# Altium footprint library AMP Footprints.PcbLib: 903 footprints (part 40 of 58)
Each footprint in its own frame and in the unit in brackets; x right, y up, seen from the top. Pads: shape width x height; smd on the part's side, far side on the other; paste and mask are expansions set on the pad; w line width, h text height; cw(c..) or ccw(c..) is an arc to the next point about the centre after c.
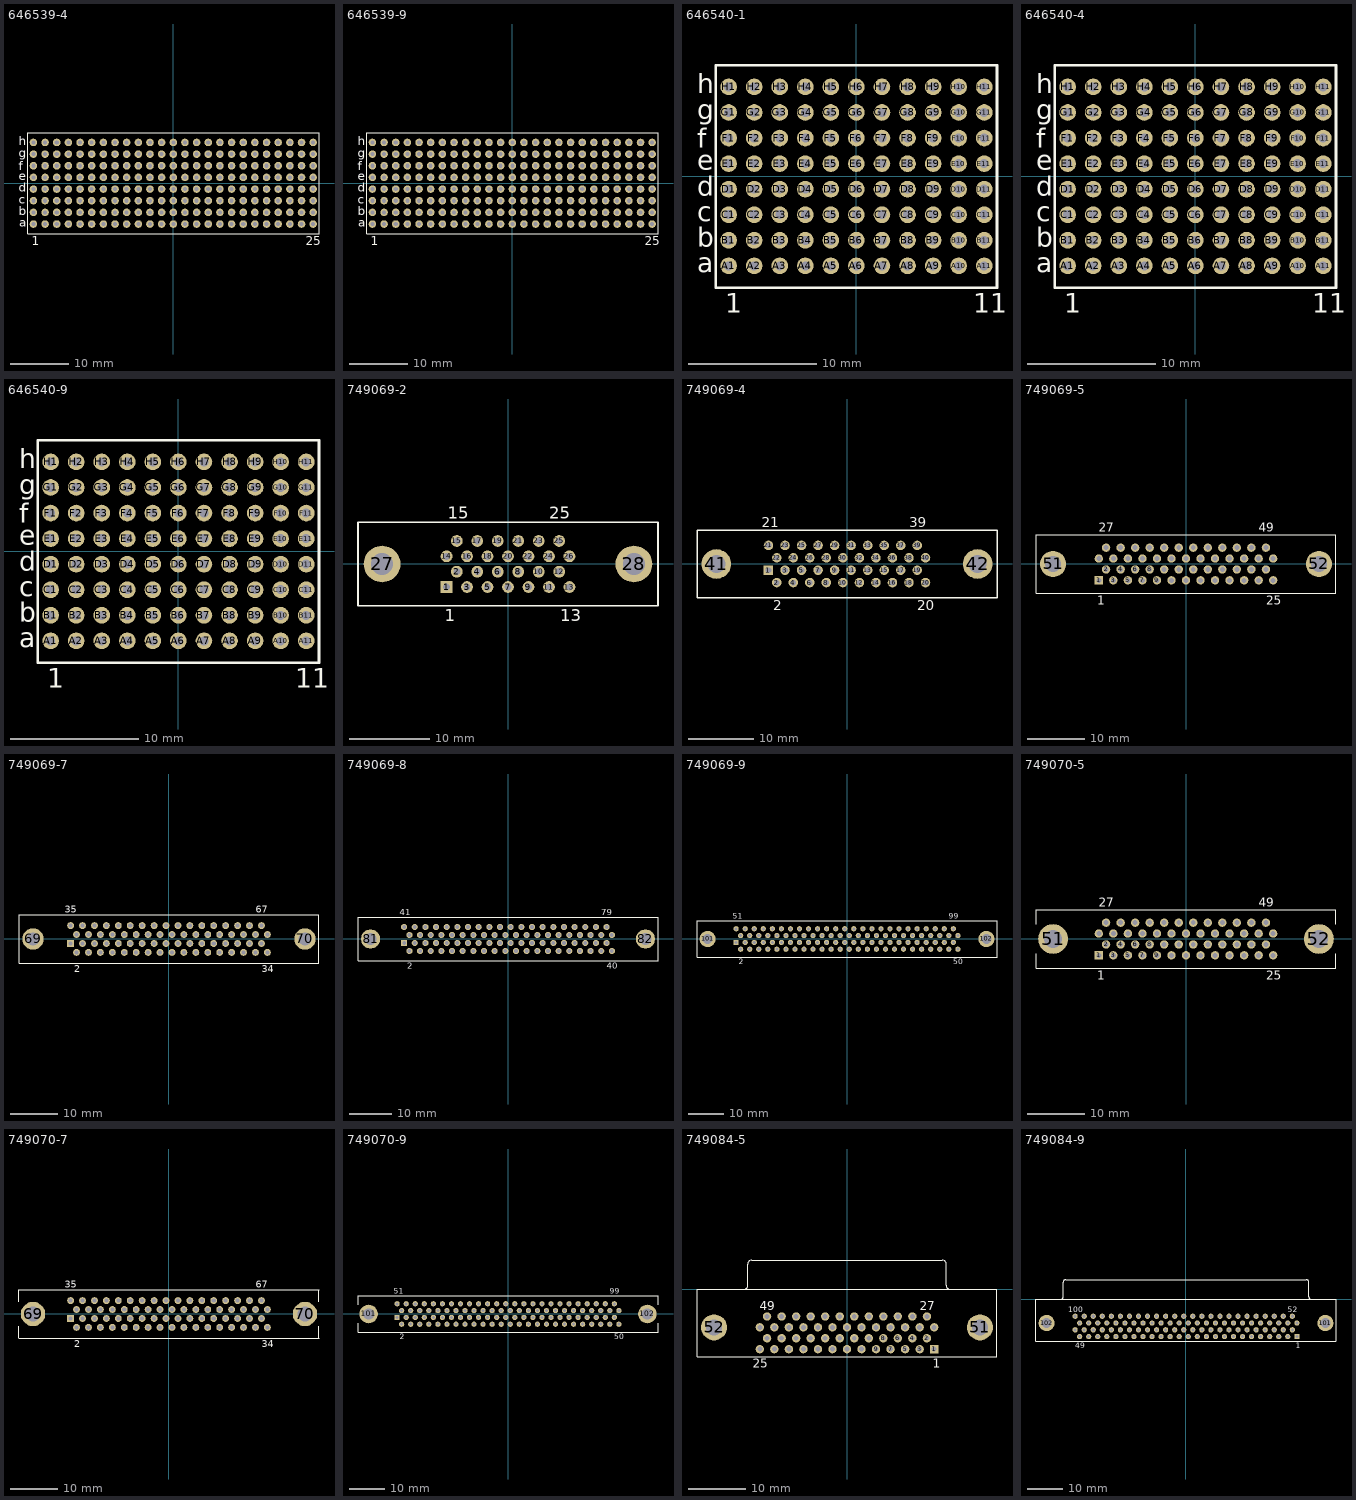
[diagram p39: the footprints below, top view; thin cyan lines are the x and y axes]

## 646539-4 [mm] "Connector; CompactPCI; 200 Position; Vertical"
height 12
pads (200):
  round 1.3 hole 0.7: A1(-24,-7) A2(-22,-7) A3(-20,-7) A4(-18,-7) A5(-16,-7) A6(-14,-7) A7(-12,-7) A8(-10,-7) A9(-8,-7) A10(-6,-7) A11(-4,-7) A12(-2,-7) A13(0,-7) A14(2,-7) A15(4,-7) A16(6,-7) A17(8,-7) A18(10,-7) A19(12,-7) A20(14,-7) A21(16,-7) A22(18,-7) A23(20,-7) A24(22,-7) A25(24,-7) B1(-24,-5) B2(-22,-5) B3(-20,-5) B4(-18,-5) B5(-16,-5) B6(-14,-5) B7(-12,-5) B8(-10,-5) B9(-8,-5) B10(-6,-5) B11(-4,-5) B12(-2,-5) B13(0,-5) B14(2,-5) B15(4,-5) B16(6,-5) B17(8,-5) B18(10,-5) B19(12,-5) B20(14,-5) B21(16,-5) B22(18,-5) B23(20,-5) B24(22,-5) B25(24,-5) C1(-24,-3) C2(-22,-3) C3(-20,-3) C4(-18,-3) C5(-16,-3) C6(-14,-3) C7(-12,-3) C8(-10,-3) C9(-8,-3) C10(-6,-3) C11(-4,-3) C12(-2,-3) C13(0,-3) C14(2,-3) C15(4,-3) C16(6,-3) C17(8,-3) C18(10,-3) C19(12,-3) C20(14,-3) C21(16,-3) C22(18,-3) C23(20,-3) C24(22,-3) C25(24,-3) D1(-24,-1) D2(-22,-1) D3(-20,-1) D4(-18,-1) D5(-16,-1) D6(-14,-1) D7(-12,-1) D8(-10,-1) D9(-8,-1) D10(-6,-1) D11(-4,-1) D12(-2,-1) D13(0,-1) D14(2,-1) D15(4,-1) D16(6,-1) D17(8,-1) D18(10,-1) D19(12,-1) D20(14,-1) D21(16,-1) D22(18,-1) D23(20,-1) D24(22,-1) D25(24,-1) E1(-24,1) E2(-22,1) E3(-20,1) E4(-18,1) E5(-16,1) E6(-14,1) E7(-12,1) E8(-10,1) E9(-8,1) E10(-6,1) E11(-4,1) E12(-2,1) E13(0,1) E14(2,1) E15(4,1) E16(6,1) E17(8,1) E18(10,1) E19(12,1) E20(14,1) E21(16,1) E22(18,1) E23(20,1) E24(22,1) E25(24,1) F1(-24,3) F2(-22,3) F3(-20,3) F4(-18,3) F5(-16,3) F6(-14,3) F7(-12,3) F8(-10,3) F9(-8,3) F10(-6,3) F11(-4,3) F12(-2,3) F13(0,3) F14(2,3) F15(4,3) F16(6,3) F17(8,3) F18(10,3) F19(12,3) F20(14,3) F21(16,3) F22(18,3) F23(20,3) F24(22,3) F25(24,3) G1(-24,5) G2(-22,5) G3(-20,5) G4(-18,5) G5(-16,5) G6(-14,5) G7(-12,5) G8(-10,5) G9(-8,5) G10(-6,5) G11(-4,5) G12(-2,5) G13(0,5) G14(2,5) G15(4,5) G16(6,5) G17(8,5) G18(10,5) G19(12,5) G20(14,5) G21(16,5) G22(18,5) G23(20,5) G24(22,5) G25(24,5) H1(-24,7) H2(-22,7) H3(-20,7) H4(-18,7) H5(-16,7) H6(-14,7) H7(-12,7) H8(-10,7) H9(-8,7) H10(-6,7) H11(-4,7) H12(-2,7) H13(0,7) H14(2,7) H15(4,7) H16(6,7) H17(8,7) H18(10,7) H19(12,7) H20(14,7) H21(16,7) H22(18,7) H23(20,7) H24(22,7) H25(24,7)
Top Overlay:
  lines w0.2: -25,-8.7 -25,8.7 25,8.7 25,-8.7 -25,-8.7
  text "a" at -26.475,-7.5 h1.5
  text "h" at -26.475,6.5 h1.5
  text "1" at -24.25,-10.675 h1.5
  text "25" at 22.75,-10.675 h1.5
  text "b" at -26.475,-5.5 h1.5
  text "c" at -26.475,-3.5 h1.5
  text "d" at -26.475,-1.5 h1.5
  text "e" at -26.475,0.5 h1.5
  text "f" at -26.475,2.225 h1.5
  text "g" at -26.475,4.488 h1.5

## 646539-9 [mm] "Connector; CompactPCI; 200 Position; Vertical"
height 12
pads (200):
  round 1.3 hole 0.7: A1(-24,-7) A2(-22,-7) A3(-20,-7) A4(-18,-7) A5(-16,-7) A6(-14,-7) A7(-12,-7) A8(-10,-7) A9(-8,-7) A10(-6,-7) A11(-4,-7) A12(-2,-7) A13(0,-7) A14(2,-7) A15(4,-7) A16(6,-7) A17(8,-7) A18(10,-7) A19(12,-7) A20(14,-7) A21(16,-7) A22(18,-7) A23(20,-7) A24(22,-7) A25(24,-7) B1(-24,-5) B2(-22,-5) B3(-20,-5) B4(-18,-5) B5(-16,-5) B6(-14,-5) B7(-12,-5) B8(-10,-5) B9(-8,-5) B10(-6,-5) B11(-4,-5) B12(-2,-5) B13(0,-5) B14(2,-5) B15(4,-5) B16(6,-5) B17(8,-5) B18(10,-5) B19(12,-5) B20(14,-5) B21(16,-5) B22(18,-5) B23(20,-5) B24(22,-5) B25(24,-5) C1(-24,-3) C2(-22,-3) C3(-20,-3) C4(-18,-3) C5(-16,-3) C6(-14,-3) C7(-12,-3) C8(-10,-3) C9(-8,-3) C10(-6,-3) C11(-4,-3) C12(-2,-3) C13(0,-3) C14(2,-3) C15(4,-3) C16(6,-3) C17(8,-3) C18(10,-3) C19(12,-3) C20(14,-3) C21(16,-3) C22(18,-3) C23(20,-3) C24(22,-3) C25(24,-3) D1(-24,-1) D2(-22,-1) D3(-20,-1) D4(-18,-1) D5(-16,-1) D6(-14,-1) D7(-12,-1) D8(-10,-1) D9(-8,-1) D10(-6,-1) D11(-4,-1) D12(-2,-1) D13(0,-1) D14(2,-1) D15(4,-1) D16(6,-1) D17(8,-1) D18(10,-1) D19(12,-1) D20(14,-1) D21(16,-1) D22(18,-1) D23(20,-1) D24(22,-1) D25(24,-1) E1(-24,1) E2(-22,1) E3(-20,1) E4(-18,1) E5(-16,1) E6(-14,1) E7(-12,1) E8(-10,1) E9(-8,1) E10(-6,1) E11(-4,1) E12(-2,1) E13(0,1) E14(2,1) E15(4,1) E16(6,1) E17(8,1) E18(10,1) E19(12,1) E20(14,1) E21(16,1) E22(18,1) E23(20,1) E24(22,1) E25(24,1) F1(-24,3) F2(-22,3) F3(-20,3) F4(-18,3) F5(-16,3) F6(-14,3) F7(-12,3) F8(-10,3) F9(-8,3) F10(-6,3) F11(-4,3) F12(-2,3) F13(0,3) F14(2,3) F15(4,3) F16(6,3) F17(8,3) F18(10,3) F19(12,3) F20(14,3) F21(16,3) F22(18,3) F23(20,3) F24(22,3) F25(24,3) G1(-24,5) G2(-22,5) G3(-20,5) G4(-18,5) G5(-16,5) G6(-14,5) G7(-12,5) G8(-10,5) G9(-8,5) G10(-6,5) G11(-4,5) G12(-2,5) G13(0,5) G14(2,5) G15(4,5) G16(6,5) G17(8,5) G18(10,5) G19(12,5) G20(14,5) G21(16,5) G22(18,5) G23(20,5) G24(22,5) G25(24,5) H1(-24,7) H2(-22,7) H3(-20,7) H4(-18,7) H5(-16,7) H6(-14,7) H7(-12,7) H8(-10,7) H9(-8,7) H10(-6,7) H11(-4,7) H12(-2,7) H13(0,7) H14(2,7) H15(4,7) H16(6,7) H17(8,7) H18(10,7) H19(12,7) H20(14,7) H21(16,7) H22(18,7) H23(20,7) H24(22,7) H25(24,7)
Top Overlay:
  lines w0.2: -25,-8.7 -25,8.7 25,8.7 25,-8.7 -25,-8.7
  text "a" at -26.475,-7.5 h1.5
  text "h" at -26.475,6.5 h1.5
  text "1" at -24.25,-10.675 h1.5
  text "25" at 22.75,-10.675 h1.5
  text "b" at -26.475,-5.5 h1.5
  text "c" at -26.475,-3.5 h1.5
  text "d" at -26.475,-1.5 h1.5
  text "e" at -26.475,0.5 h1.5
  text "f" at -26.475,2.225 h1.5
  text "g" at -26.475,4.488 h1.5

## 646540-1 [mm] "Connector; CompactPCI; 88 Position; Vertical"
height 13.95
pads (88):
  round 1.3 hole 0.7: A1(-10,-7) A2(-8,-7) A3(-6,-7) A4(-4,-7) A5(-2,-7) A6(0,-7) A7(2,-7) A8(4,-7) A9(6,-7) A10(8,-7) A11(10,-7) B1(-10,-5) B2(-8,-5) B3(-6,-5) B4(-4,-5) B5(-2,-5) B6(0,-5) B7(2,-5) B8(4,-5) B9(6,-5) B10(8,-5) B11(10,-5) C1(-10,-3) C2(-8,-3) C3(-6,-3) C4(-4,-3) C5(-2,-3) C6(0,-3) C7(2,-3) C8(4,-3) C9(6,-3) C10(8,-3) C11(10,-3) D1(-10,-1) D2(-8,-1) D3(-6,-1) D4(-4,-1) D5(-2,-1) D6(0,-1) D7(2,-1) D8(4,-1) D9(6,-1) D10(8,-1) D11(10,-1) E1(-10,1) E2(-8,1) E3(-6,1) E4(-4,1) E5(-2,1) E6(0,1) E7(2,1) E8(4,1) E9(6,1) E10(8,1) E11(10,1) F1(-10,3) F2(-8,3) F3(-6,3) F4(-4,3) F5(-2,3) F6(0,3) F7(2,3) F8(4,3) F9(6,3) F10(8,3) F11(10,3) G1(-10,5) G2(-8,5) G3(-6,5) G4(-4,5) G5(-2,5) G6(0,5) G7(2,5) G8(4,5) G9(6,5) G10(8,5) G11(10,5) H1(-10,7) H2(-8,7) H3(-6,7) H4(-4,7) H5(-2,7) H6(0,7) H7(2,7) H8(4,7) H9(6,7) H10(8,7) H11(10,7)
Top Overlay:
  lines w0.2: -11,-8.7 11,-8.7 11,8.7 -11,8.7 -11,-8.7
  text "a" at -12.475,-7.5 h1.5
  text "h" at -12.475,6.5 h1.5
  text "b" at -12.475,-5.5 h1.5
  text "c" at -12.475,-3.5 h1.5
  text "d" at -12.475,-1.5 h1.5
  text "e" at -12.475,0.5 h1.5
  text "f" at -12.475,2.225 h1.5
  text "g" at -12.475,4.488 h1.5
  text "11" at 9.125,-10.675 h1.5
  text "1" at -10.25,-10.675 h1.5

## 646540-4 [mm] "Connector; CompactPCI; 88 Position; Vertical"
height 13.95
pads (88):
  round 1.3 hole 0.7: A1(-10,-7) A2(-8,-7) A3(-6,-7) A4(-4,-7) A5(-2,-7) A6(0,-7) A7(2,-7) A8(4,-7) A9(6,-7) A10(8,-7) A11(10,-7) B1(-10,-5) B2(-8,-5) B3(-6,-5) B4(-4,-5) B5(-2,-5) B6(0,-5) B7(2,-5) B8(4,-5) B9(6,-5) B10(8,-5) B11(10,-5) C1(-10,-3) C2(-8,-3) C3(-6,-3) C4(-4,-3) C5(-2,-3) C6(0,-3) C7(2,-3) C8(4,-3) C9(6,-3) C10(8,-3) C11(10,-3) D1(-10,-1) D2(-8,-1) D3(-6,-1) D4(-4,-1) D5(-2,-1) D6(0,-1) D7(2,-1) D8(4,-1) D9(6,-1) D10(8,-1) D11(10,-1) E1(-10,1) E2(-8,1) E3(-6,1) E4(-4,1) E5(-2,1) E6(0,1) E7(2,1) E8(4,1) E9(6,1) E10(8,1) E11(10,1) F1(-10,3) F2(-8,3) F3(-6,3) F4(-4,3) F5(-2,3) F6(0,3) F7(2,3) F8(4,3) F9(6,3) F10(8,3) F11(10,3) G1(-10,5) G2(-8,5) G3(-6,5) G4(-4,5) G5(-2,5) G6(0,5) G7(2,5) G8(4,5) G9(6,5) G10(8,5) G11(10,5) H1(-10,7) H2(-8,7) H3(-6,7) H4(-4,7) H5(-2,7) H6(0,7) H7(2,7) H8(4,7) H9(6,7) H10(8,7) H11(10,7)
Top Overlay:
  lines w0.2: -11,-8.7 11,-8.7 11,8.7 -11,8.7 -11,-8.7
  text "a" at -12.475,-7.5 h1.5
  text "h" at -12.475,6.5 h1.5
  text "b" at -12.475,-5.5 h1.5
  text "c" at -12.475,-3.5 h1.5
  text "d" at -12.475,-1.5 h1.5
  text "e" at -12.475,0.5 h1.5
  text "f" at -12.475,2.225 h1.5
  text "g" at -12.475,4.488 h1.5
  text "11" at 9.125,-10.675 h1.5
  text "1" at -10.25,-10.675 h1.5

## 646540-9 [mm] "Connector; CompactPCI; 88 Position; Vertical"
height 13.95
pads (88):
  round 1.3 hole 0.7: A1(-10,-7) A2(-8,-7) A3(-6,-7) A4(-4,-7) A5(-2,-7) A6(0,-7) A7(2,-7) A8(4,-7) A9(6,-7) A10(8,-7) A11(10,-7) B1(-10,-5) B2(-8,-5) B3(-6,-5) B4(-4,-5) B5(-2,-5) B6(0,-5) B7(2,-5) B8(4,-5) B9(6,-5) B10(8,-5) B11(10,-5) C1(-10,-3) C2(-8,-3) C3(-6,-3) C4(-4,-3) C5(-2,-3) C6(0,-3) C7(2,-3) C8(4,-3) C9(6,-3) C10(8,-3) C11(10,-3) D1(-10,-1) D2(-8,-1) D3(-6,-1) D4(-4,-1) D5(-2,-1) D6(0,-1) D7(2,-1) D8(4,-1) D9(6,-1) D10(8,-1) D11(10,-1) E1(-10,1) E2(-8,1) E3(-6,1) E4(-4,1) E5(-2,1) E6(0,1) E7(2,1) E8(4,1) E9(6,1) E10(8,1) E11(10,1) F1(-10,3) F2(-8,3) F3(-6,3) F4(-4,3) F5(-2,3) F6(0,3) F7(2,3) F8(4,3) F9(6,3) F10(8,3) F11(10,3) G1(-10,5) G2(-8,5) G3(-6,5) G4(-4,5) G5(-2,5) G6(0,5) G7(2,5) G8(4,5) G9(6,5) G10(8,5) G11(10,5) H1(-10,7) H2(-8,7) H3(-6,7) H4(-4,7) H5(-2,7) H6(0,7) H7(2,7) H8(4,7) H9(6,7) H10(8,7) H11(10,7)
Top Overlay:
  lines w0.2: -11,-8.7 11,-8.7 11,8.7 -11,8.7 -11,-8.7
  text "a" at -12.475,-7.5 h1.5
  text "h" at -12.475,6.5 h1.5
  text "b" at -12.475,-5.5 h1.5
  text "c" at -12.475,-3.5 h1.5
  text "d" at -12.475,-1.5 h1.5
  text "e" at -12.475,0.5 h1.5
  text "f" at -12.475,2.225 h1.5
  text "g" at -12.475,4.488 h1.5
  text "11" at 9.125,-10.675 h1.5
  text "1" at -10.25,-10.675 h1.5

## 749069-2 [mm] "Connector; D Subminiature 050 Series; 26 Position; Vertical"
height 9.04
pads (28):
  rect 1.46x1.46 hole 0.86: 1(-7.62,-2.857)
  round 1.46 hole 0.86: 2(-6.35,-0.953) 3(-5.08,-2.857) 4(-3.81,-0.953) 5(-2.54,-2.857) 6(-1.27,-0.953) 7(0,-2.857) 8(1.27,-0.953) 9(2.54,-2.857) 10(3.81,-0.953) 11(5.08,-2.857) 12(6.35,-0.953) 13(7.62,-2.857) 14(-7.62,0.953) 15(-6.35,2.857) 16(-5.08,0.953) 17(-3.81,2.857) 18(-2.54,0.953) 19(-1.27,2.857) 20(0,0.953) 21(1.27,2.857) 22(2.54,0.953) 23(3.81,2.857) 24(5.08,0.953) 25(6.35,2.857) 26(7.62,0.953)
  round 4.55 hole 2.77: 27(-15.62,0) 28(15.62,0)
Top Overlay:
  lines w0.2: -18.605,-5.155 -18.605,5.155 18.605,5.155 18.605,-5.155 -18.605,-5.155
  text "25" at 5.1,5.63 h1.5
  text "15" at -7.475,5.63 h1.5
  text "13" at 6.495,-7.13 h1.5
  text "1" at -7.87,-7.13 h1.5

## 749069-4 [mm] "Connector; D Subminiature 050 Series; 40 Position; Vertical"
height 9.04
pads (42):
  rect 1.46x1.46 hole 0.86: 1(-12.065,-0.953)
  round 1.46 hole 0.86: 2(-10.795,-2.857) 3(-9.525,-0.953) 4(-8.255,-2.857) 5(-6.985,-0.953) 6(-5.715,-2.857) 7(-4.445,-0.953) 8(-3.175,-2.857) 9(-1.905,-0.953) 10(-0.635,-2.857) 11(0.635,-0.953) 12(1.905,-2.857) 13(3.175,-0.953) 14(4.445,-2.857) 15(5.715,-0.953) 16(6.985,-2.857) 17(8.255,-0.953) 18(9.525,-2.857) 19(10.795,-0.953) 20(12.065,-2.857) 21(-12.065,2.857) 22(-10.795,0.953) 23(-9.525,2.857) 24(-8.255,0.953) 25(-6.985,2.857) 26(-5.715,0.953) 27(-4.445,2.857) 28(-3.175,0.953) 29(-1.905,2.857) 30(-0.635,0.953) 31(0.635,2.857) 32(1.905,0.953) 33(3.175,2.857) 34(4.445,0.953) 35(5.715,2.857) 36(6.985,0.953) 37(8.255,2.857) 38(9.525,0.953) 39(10.795,2.857) 40(12.065,0.953)
  round 4.55 hole 2.77: 41(-20.065,0) 42(20.065,0)
Top Overlay:
  lines w0.2: -23.05,-5.155 -23.05,5.155 23.05,5.155 23.05,-5.155 -23.05,-5.155
  text "21" at -13.065,5.63 h1.5
  text "39" at 9.545,5.63 h1.5
  text "2" at -11.295,-7.13 h1.5
  text "20" at 10.815,-7.13 h1.5

## 749069-5 [mm] "Connector; D Subminiature 050 Series; 50 Position; Vertical"
height 9.04
pads (52):
  rect 1.46x1.46 hole 0.86: 1(-15.24,-2.857)
  round 1.46 hole 0.86: 2(-13.97,-0.953) 3(-12.7,-2.857) 4(-11.43,-0.953) 5(-10.16,-2.857) 6(-8.89,-0.953) 7(-7.62,-2.857) 8(-6.35,-0.953) 9(-5.08,-2.857) 10(-3.81,-0.953) 11(-2.54,-2.857) 12(-1.27,-0.953) 13(0,-2.857) 14(1.27,-0.953) 15(2.54,-2.857) 16(3.81,-0.953) 17(5.08,-2.857) 18(6.35,-0.953) 19(7.62,-2.857) 20(8.89,-0.953) 21(10.16,-2.857) 22(11.43,-0.953) 23(12.7,-2.857) 24(13.97,-0.953) 25(15.24,-2.857) 26(-15.24,0.953) 27(-13.97,2.857) 28(-12.7,0.953) 29(-11.43,2.857) 30(-10.16,0.953) 31(-8.89,2.857) 32(-7.62,0.953) 33(-6.35,2.857) 34(-5.08,0.953) 35(-3.81,2.857) 36(-2.54,0.953) 37(-1.27,2.857) 38(0,0.953) 39(1.27,2.857) 40(2.54,0.953) 41(3.81,2.857) 42(5.08,0.953) 43(6.35,2.857) 44(7.62,0.953) 45(8.89,2.857) 46(10.16,0.953) 47(11.43,2.857) 48(12.7,0.953) 49(13.97,2.857) 50(15.24,0.953)
  round 4.55 hole 2.77: 51(-23.24,0) 52(23.24,0)
Top Overlay:
  lines w0.2: -26.225,-5.155 26.225,-5.155 26.225,5.155 -26.225,5.155 -26.225,-5.155
  text "49" at 12.72,5.63 h1.5
  text "27" at -15.22,5.63 h1.5
  text "25" at 13.99,-7.13 h1.5
  text "1" at -15.49,-7.13 h1.5

## 749069-7 [mm] "Connector; D Subminiature 050 Series; 68 Position; Vertical"
height 9.04
pads (70):
  rect 1.46x1.46 hole 0.86: 1(-20.955,-0.953)
  round 1.46 hole 0.86: 2(-19.685,-2.857) 3(-18.415,-0.953) 4(-17.145,-2.857) 5(-15.875,-0.953) 6(-14.605,-2.857) 7(-13.335,-0.953) 8(-12.065,-2.857) 9(-10.795,-0.953) 10(-9.525,-2.857) 11(-8.255,-0.953) 12(-6.985,-2.857) 13(-5.715,-0.953) 14(-4.445,-2.857) 15(-3.175,-0.953) 16(-1.905,-2.857) 17(-0.635,-0.953) 18(0.635,-2.857) 19(1.905,-0.953) 20(3.175,-2.857) 21(4.445,-0.953) 22(5.715,-2.857) 23(6.985,-0.953) 24(8.255,-2.857) 25(9.525,-0.953) 26(10.795,-2.857) 27(12.065,-0.953) 28(13.335,-2.857) 29(14.605,-0.953) 30(15.875,-2.857) 31(17.145,-0.953) 32(18.415,-2.857) 33(19.685,-0.953) 34(20.955,-2.857) 35(-20.955,2.857) 36(-19.685,0.953) 37(-18.415,2.857) 38(-17.145,0.953) 39(-15.875,2.857) 40(-14.605,0.953) 41(-13.335,2.857) 42(-12.065,0.953) 43(-10.795,2.857) 44(-9.525,0.953) 45(-8.255,2.857) 46(-6.985,0.953) 47(-5.715,2.857) 48(-4.445,0.953) 49(-3.175,2.857) 50(-1.905,0.953) 51(-0.635,2.857) 52(0.635,0.953) 53(1.905,2.857) 54(3.175,0.953) 55(4.445,2.857) 56(5.715,0.953) 57(6.985,2.857) 58(8.255,0.953) 59(9.525,2.857) 60(10.795,0.953) 61(12.065,2.857) 62(13.335,0.953) 63(14.605,2.857) 64(15.875,0.953) 65(17.145,2.857) 66(18.415,0.953) 67(19.685,2.857) 68(20.955,0.953)
  round 4.55 hole 2.77: 69(-28.955,0) 70(28.955,0)
Top Overlay:
  lines w0.2: -31.94,-5.155 31.94,-5.155 31.94,5.155 -31.94,5.155 -31.94,-5.155
  text "67" at 18.435,5.63 h1.5
  text "35" at -22.205,5.63 h1.5
  text "34" at 19.705,-7.13 h1.5
  text "2" at -20.185,-7.13 h1.5

## 749069-8 [mm] "Connector; D Subminiature 050 Series; 80 Position; Vertical"
height 9.04
pads (82):
  rect 1.46x1.46 hole 0.86: 1(-24.765,-0.953)
  round 1.46 hole 0.86: 2(-23.495,-2.857) 3(-22.225,-0.953) 4(-20.955,-2.857) 5(-19.685,-0.953) 6(-18.415,-2.857) 7(-17.145,-0.953) 8(-15.875,-2.857) 9(-14.605,-0.953) 10(-13.335,-2.857) 11(-12.065,-0.953) 12(-10.795,-2.857) 13(-9.525,-0.953) 14(-8.255,-2.857) 15(-6.985,-0.953) 16(-5.715,-2.857) 17(-4.445,-0.953) 18(-3.175,-2.857) 19(-1.905,-0.953) 20(-0.635,-2.857) 21(0.635,-0.953) 22(1.905,-2.857) 23(3.175,-0.953) 24(4.445,-2.857) 25(5.715,-0.953) 26(6.985,-2.857) 27(8.255,-0.953) 28(9.525,-2.857) 29(10.795,-0.953) 30(12.065,-2.857) 31(13.335,-0.953) 32(14.605,-2.857) 33(15.875,-0.953) 34(17.145,-2.857) 35(18.415,-0.953) 36(19.685,-2.857) 37(20.955,-0.953) 38(22.225,-2.857) 39(23.495,-0.953) 40(24.765,-2.857) 41(-24.765,2.857) 42(-23.495,0.953) 43(-22.225,2.857) 44(-20.955,0.953) 45(-19.685,2.857) 46(-18.415,0.953) 47(-17.145,2.857) 48(-15.875,0.953) 49(-14.605,2.857) 50(-13.335,0.953) 51(-12.065,2.857) 52(-10.795,0.953) 53(-9.525,2.857) 54(-8.255,0.953) 55(-6.985,2.857) 56(-5.715,0.953) 57(-4.445,2.857) 58(-3.175,0.953) 59(-1.905,2.857) 60(-0.635,0.953) 61(0.635,2.857) 62(1.905,0.953) 63(3.175,2.857) 64(4.445,0.953) 65(5.715,2.857) 66(6.985,0.953) 67(8.255,2.857) 68(9.525,0.953) 69(10.795,2.857) 70(12.065,0.953) 71(13.335,2.857) 72(14.605,0.953) 73(15.875,2.857) 74(17.145,0.953) 75(18.415,2.857) 76(19.685,0.953) 77(20.955,2.857) 78(22.225,0.953) 79(23.495,2.857) 80(24.765,0.953)
  round 4.55 hole 2.77: 81(-32.765,0) 82(32.765,0)
Top Overlay:
  lines w0.2: -35.75,-5.155 -35.75,5.155 35.75,5.155 35.75,-5.155 -35.75,-5.155
  text "2" at -23.995,-7.13 h1.5
  text "41" at -25.765,5.63 h1.5
  text "40" at 23.515,-7.13 h1.5
  text "79" at 22.245,5.63 h1.5

## 749069-9 [mm] "Connector; D Subminiature 050 Series; 100 Position; Vertical"
height 9.04
pads (102):
  rect 1.46x1.46 hole 0.86: 1(-31.115,-0.953)
  round 1.46 hole 0.86: 2(-29.845,-2.857) 3(-28.575,-0.953) 4(-27.305,-2.857) 5(-26.035,-0.953) 6(-24.765,-2.857) 7(-23.495,-0.953) 8(-22.225,-2.857) 9(-20.955,-0.953) 10(-19.685,-2.857) 11(-18.415,-0.953) 12(-17.145,-2.857) 13(-15.875,-0.953) 14(-14.605,-2.857) 15(-13.335,-0.953) 16(-12.065,-2.857) 17(-10.795,-0.953) 18(-9.525,-2.857) 19(-8.255,-0.953) 20(-6.985,-2.857) 21(-5.715,-0.953) 22(-4.445,-2.857) 23(-3.175,-0.953) 24(-1.905,-2.857) 25(-0.635,-0.953) 26(0.635,-2.857) 27(1.905,-0.953) 28(3.175,-2.857) 29(4.445,-0.953) 30(5.715,-2.857) 31(6.985,-0.953) 32(8.255,-2.857) 33(9.525,-0.953) 34(10.795,-2.857) 35(12.065,-0.953) 36(13.335,-2.857) 37(14.605,-0.953) 38(15.875,-2.857) 39(17.145,-0.953) 40(18.415,-2.857) 41(19.685,-0.953) 42(20.955,-2.857) 43(22.225,-0.953) 44(23.495,-2.857) 45(24.765,-0.953) 46(26.035,-2.857) 47(27.305,-0.953) 48(28.575,-2.857) 49(29.845,-0.953) 50(31.115,-2.857) 51(-31.115,2.857) 52(-29.845,0.953) 53(-28.575,2.857) 54(-27.305,0.953) 55(-26.035,2.857) 56(-24.765,0.953) 57(-23.495,2.857) 58(-22.225,0.953) 59(-20.955,2.857) 60(-19.685,0.953) 61(-18.415,2.857) 62(-17.145,0.953) 63(-15.875,2.857) 64(-14.605,0.953) 65(-13.335,2.857) 66(-12.065,0.953) 67(-10.795,2.857) 68(-9.525,0.953) 69(-8.255,2.857) 70(-6.985,0.953) 71(-5.715,2.857) 72(-4.445,0.953) 73(-3.175,2.857) 74(-1.905,0.953) 75(-0.635,2.857) 76(0.635,0.953) 77(1.905,2.857) 78(3.175,0.953) 79(4.445,2.857) 80(5.715,0.953) 81(6.985,2.857) 82(8.255,0.953) 83(9.525,2.857) 84(10.795,0.953) 85(12.065,2.857) 86(13.335,0.953) 87(14.605,2.857) 88(15.875,0.953) 89(17.145,2.857) 90(18.415,0.953) 91(19.685,2.857) 92(20.955,0.953) 93(22.225,2.857) 94(23.495,0.953) 95(24.765,2.857) 96(26.035,0.953) 97(27.305,2.857) 98(28.575,0.953) 99(29.845,2.857) 100(31.115,0.953)
  round 4.55 hole 2.77: 101(-39.115,0) 102(39.115,0)
Top Overlay:
  lines w0.2: -42.1,-5.155 42.1,-5.155 42.1,5.155 -42.1,5.155 -42.1,-5.155
  text "99" at 28.595,5.63 h1.5
  text "2" at -30.345,-7.13 h1.5
  text "51" at -32.115,5.63 h1.5
  text "50" at 29.865,-7.13 h1.5

## 749070-5 [mm] "Connector; D Subminiature 050 Series; 50 Position; Vertical"
height 8.83
pads (52):
  rect 1.46x1.46 hole 0.86: 1(-15.24,-2.857)
  round 1.46 hole 0.86: 2(-13.97,-0.953) 3(-12.7,-2.857) 4(-11.43,-0.953) 5(-10.16,-2.857) 6(-8.89,-0.953) 7(-7.62,-2.857) 8(-6.35,-0.953) 9(-5.08,-2.857) 10(-3.81,-0.953) 11(-2.54,-2.857) 12(-1.27,-0.953) 13(0,-2.857) 14(1.27,-0.953) 15(2.54,-2.857) 16(3.81,-0.953) 17(5.08,-2.857) 18(6.35,-0.953) 19(7.62,-2.857) 20(8.89,-0.953) 21(10.16,-2.857) 22(11.43,-0.953) 23(12.7,-2.857) 24(13.97,-0.953) 25(15.24,-2.857) 26(-15.24,0.953) 27(-13.97,2.857) 28(-12.7,0.953) 29(-11.43,2.857) 30(-10.16,0.953) 31(-8.89,2.857) 32(-7.62,0.953) 33(-6.35,2.857) 34(-5.08,0.953) 35(-3.81,2.857) 36(-2.54,0.953) 37(-1.27,2.857) 38(0,0.953) 39(1.27,2.857) 40(2.54,0.953) 41(3.81,2.857) 42(5.08,0.953) 43(6.35,2.857) 44(7.62,0.953) 45(8.89,2.857) 46(10.16,0.953) 47(11.43,2.857) 48(12.7,0.953) 49(13.97,2.857) 50(15.24,0.953)
  round 5.2 hole 3.18: 51(-23.24,0) 52(23.24,0)
Top Overlay:
  lines w0.2: -26.225,-2.592 -26.225,-5.155 26.225,-5.155 26.225,-2.592 ; -26.225,2.592 -26.225,5.155 26.225,5.155 26.225,2.592
  text "49" at 12.72,5.63 h1.5
  text "27" at -15.22,5.63 h1.5
  text "25" at 13.99,-7.13 h1.5
  text "1" at -15.49,-7.13 h1.5

## 749070-7 [mm] "Connector; D Subminiature 050 Series; 68 Position; Vertical"
height 8.83
pads (70):
  rect 1.46x1.46 hole 0.86: 1(-20.955,-0.953)
  round 1.46 hole 0.86: 2(-19.685,-2.857) 3(-18.415,-0.953) 4(-17.145,-2.857) 5(-15.875,-0.953) 6(-14.605,-2.857) 7(-13.335,-0.953) 8(-12.065,-2.857) 9(-10.795,-0.953) 10(-9.525,-2.857) 11(-8.255,-0.953) 12(-6.985,-2.857) 13(-5.715,-0.953) 14(-4.445,-2.857) 15(-3.175,-0.953) 16(-1.905,-2.857) 17(-0.635,-0.953) 18(0.635,-2.857) 19(1.905,-0.953) 20(3.175,-2.857) 21(4.445,-0.953) 22(5.715,-2.857) 23(6.985,-0.953) 24(8.255,-2.857) 25(9.525,-0.953) 26(10.795,-2.857) 27(12.065,-0.953) 28(13.335,-2.857) 29(14.605,-0.953) 30(15.875,-2.857) 31(17.145,-0.953) 32(18.415,-2.857) 33(19.685,-0.953) 34(20.955,-2.857) 35(-20.955,2.857) 36(-19.685,0.953) 37(-18.415,2.857) 38(-17.145,0.953) 39(-15.875,2.857) 40(-14.605,0.953) 41(-13.335,2.857) 42(-12.065,0.953) 43(-10.795,2.857) 44(-9.525,0.953) 45(-8.255,2.857) 46(-6.985,0.953) 47(-5.715,2.857) 48(-4.445,0.953) 49(-3.175,2.857) 50(-1.905,0.953) 51(-0.635,2.857) 52(0.635,0.953) 53(1.905,2.857) 54(3.175,0.953) 55(4.445,2.857) 56(5.715,0.953) 57(6.985,2.857) 58(8.255,0.953) 59(9.525,2.857) 60(10.795,0.953) 61(12.065,2.857) 62(13.335,0.953) 63(14.605,2.857) 64(15.875,0.953) 65(17.145,2.857) 66(18.415,0.953) 67(19.685,2.857) 68(20.955,0.953)
  round 5.2 hole 3.18: 69(-28.955,0) 70(28.955,0)
Top Overlay:
  lines w0.2: -31.94,-2.592 -31.94,-5.155 31.94,-5.155 31.94,-2.592 ; -31.94,2.592 -31.94,5.155 31.94,5.155 31.94,2.592
  text "67" at 18.435,5.63 h1.5
  text "35" at -22.205,5.63 h1.5
  text "34" at 19.705,-7.13 h1.5
  text "2" at -20.185,-7.13 h1.5

## 749070-9 [mm] "Connector; D Subminiature 050 Series; 100 Position; Vertical"
height 8.83
pads (102):
  rect 1.46x1.46 hole 0.86: 1(-31.115,-0.953)
  round 1.46 hole 0.86: 2(-29.845,-2.857) 3(-28.575,-0.953) 4(-27.305,-2.857) 5(-26.035,-0.953) 6(-24.765,-2.857) 7(-23.495,-0.953) 8(-22.225,-2.857) 9(-20.955,-0.953) 10(-19.685,-2.857) 11(-18.415,-0.953) 12(-17.145,-2.857) 13(-15.875,-0.953) 14(-14.605,-2.857) 15(-13.335,-0.953) 16(-12.065,-2.857) 17(-10.795,-0.953) 18(-9.525,-2.857) 19(-8.255,-0.953) 20(-6.985,-2.857) 21(-5.715,-0.953) 22(-4.445,-2.857) 23(-3.175,-0.953) 24(-1.905,-2.857) 25(-0.635,-0.953) 26(0.635,-2.857) 27(1.905,-0.953) 28(3.175,-2.857) 29(4.445,-0.953) 30(5.715,-2.857) 31(6.985,-0.953) 32(8.255,-2.857) 33(9.525,-0.953) 34(10.795,-2.857) 35(12.065,-0.953) 36(13.335,-2.857) 37(14.605,-0.953) 38(15.875,-2.857) 39(17.145,-0.953) 40(18.415,-2.857) 41(19.685,-0.953) 42(20.955,-2.857) 43(22.225,-0.953) 44(23.495,-2.857) 45(24.765,-0.953) 46(26.035,-2.857) 47(27.305,-0.953) 48(28.575,-2.857) 49(29.845,-0.953) 50(31.115,-2.857) 51(-31.115,2.857) 52(-29.845,0.953) 53(-28.575,2.857) 54(-27.305,0.953) 55(-26.035,2.857) 56(-24.765,0.953) 57(-23.495,2.857) 58(-22.225,0.953) 59(-20.955,2.857) 60(-19.685,0.953) 61(-18.415,2.857) 62(-17.145,0.953) 63(-15.875,2.857) 64(-14.605,0.953) 65(-13.335,2.857) 66(-12.065,0.953) 67(-10.795,2.857) 68(-9.525,0.953) 69(-8.255,2.857) 70(-6.985,0.953) 71(-5.715,2.857) 72(-4.445,0.953) 73(-3.175,2.857) 74(-1.905,0.953) 75(-0.635,2.857) 76(0.635,0.953) 77(1.905,2.857) 78(3.175,0.953) 79(4.445,2.857) 80(5.715,0.953) 81(6.985,2.857) 82(8.255,0.953) 83(9.525,2.857) 84(10.795,0.953) 85(12.065,2.857) 86(13.335,0.953) 87(14.605,2.857) 88(15.875,0.953) 89(17.145,2.857) 90(18.415,0.953) 91(19.685,2.857) 92(20.955,0.953) 93(22.225,2.857) 94(23.495,0.953) 95(24.765,2.857) 96(26.035,0.953) 97(27.305,2.857) 98(28.575,0.953) 99(29.845,2.857) 100(31.115,0.953)
  round 5.2 hole 3.18: 101(-39.115,0) 102(39.115,0)
Top Overlay:
  lines w0.2: -42.1,-2.592 -42.1,-5.155 42.1,-5.155 42.1,-2.592 ; -42.1,2.592 -42.1,5.155 42.1,5.155 42.1,2.592
  text "99" at 28.595,5.63 h1.5
  text "2" at -30.345,-7.13 h1.5
  text "51" at -32.115,5.63 h1.5
  text "50" at 29.865,-7.13 h1.5

## 749084-5 [mm] "Connector; D Subminiature 050 Series; 50 Position; Right Angle"
height 10.44
pads (52):
  rect 1.46x1.46 hole 0.86: 1(15.24,-10.46)
  round 1.46 hole 0.86: 2(13.97,-8.555) 3(12.7,-10.46) 4(11.43,-8.555) 5(10.16,-10.46) 6(8.89,-8.555) 7(7.62,-10.46) 8(6.35,-8.555) 9(5.08,-10.46) 10(3.81,-8.555) 11(2.54,-10.46) 12(1.27,-8.555) 13(0,-10.46) 14(-1.27,-8.555) 15(-2.54,-10.46) 16(-3.81,-8.555) 17(-5.08,-10.46) 18(-6.35,-8.555) 19(-7.62,-10.46) 20(-8.89,-8.555) 21(-10.16,-10.46) 22(-11.43,-8.555) 23(-12.7,-10.46) 24(-13.97,-8.555) 25(-15.24,-10.46) 26(15.24,-6.65) 27(13.97,-4.745) 28(12.7,-6.65) 29(11.43,-4.745) 30(10.16,-6.65) 31(8.89,-4.745) 32(7.62,-6.65) 33(6.35,-4.745) 34(5.08,-6.65) 35(3.81,-4.745) 36(2.54,-6.65) 37(1.27,-4.745) 38(0,-6.65) 39(-1.27,-4.745) 40(-2.54,-6.65) 41(-3.81,-4.745) 42(-5.08,-6.65) 43(-6.35,-4.745) 44(-7.62,-6.65) 45(-8.89,-4.745) 46(-10.16,-6.65) 47(-11.43,-4.745) 48(-12.7,-6.65) 49(-13.97,-4.745) 50(-15.24,-6.65)
  round 4.55 hole 2.77: 51(23.24,-6.65) 52(-23.24,-6.65)
Top Overlay:
  lines w0.2: -18.045,0.015 ccw(c-18.045,0.71) -17.35,0.71 -17.35,4.41 ; -17.345,4.415 cw(c-16.65,4.415) -16.65,5.11 16.65,5.11 cw(c16.65,4.415) 17.345,4.415 ; 17.35,4.41 17.35,0.71 ccw(c18.045,0.71) 18.045,0.015 ; -26.225,-11.76 -26.225,0 26.225,0 26.225,-11.76 -26.225,-11.76
  text "1" at 14.99,-13.735 h1.5
  text "25" at -16.49,-13.735 h1.5
  text "27" at 12.72,-3.64 h1.5
  text "49" at -15.22,-3.64 h1.5

## 749084-9 [mm] "Connector; D Subminiature 050 Series; 100 Position; Right Angle"
height 10.44
pads (102):
  rect 1.46x1.46 hole 0.86: 1(31.115,-10.46)
  round 1.46 hole 0.86: 2(29.845,-8.555) 3(28.575,-10.46) 4(27.305,-8.555) 5(26.035,-10.46) 6(24.765,-8.555) 7(23.495,-10.46) 8(22.225,-8.555) 9(20.955,-10.46) 10(19.685,-8.555) 11(18.415,-10.46) 12(17.145,-8.555) 13(15.875,-10.46) 14(14.605,-8.555) 15(13.335,-10.46) 16(12.065,-8.555) 17(10.795,-10.46) 18(9.525,-8.555) 19(8.255,-10.46) 20(6.985,-8.555) 21(5.715,-10.46) 22(4.445,-8.555) 23(3.175,-10.46) 24(1.905,-8.555) 25(0.635,-10.46) 26(-0.635,-8.555) 27(-1.905,-10.46) 28(-3.175,-8.555) 29(-4.445,-10.46) 30(-5.715,-8.555) 31(-6.985,-10.46) 32(-8.255,-8.555) 33(-9.525,-10.46) 34(-10.795,-8.555) 35(-12.065,-10.46) 36(-13.335,-8.555) 37(-14.605,-10.46) 38(-15.875,-8.555) 39(-17.145,-10.46) 40(-18.415,-8.555) 41(-19.685,-10.46) 42(-20.955,-8.555) 43(-22.225,-10.46) 44(-23.495,-8.555) 45(-24.765,-10.46) 46(-26.035,-8.555) 47(-27.305,-10.46) 48(-28.575,-8.555) 49(-29.845,-10.46) 50(-31.115,-8.555) 51(31.115,-6.65) 52(29.845,-4.745) 53(28.575,-6.65) 54(27.305,-4.745) 55(26.035,-6.65) 56(24.765,-4.745) 57(23.495,-6.65) 58(22.225,-4.745) 59(20.955,-6.65) 60(19.685,-4.745) 61(18.415,-6.65) 62(17.145,-4.745) 63(15.875,-6.65) 64(14.605,-4.745) 65(13.335,-6.65) 66(12.065,-4.745) 67(10.795,-6.65) 68(9.525,-4.745) 69(8.255,-6.65) 70(6.985,-4.745) 71(5.715,-6.65) 72(4.445,-4.745) 73(3.175,-6.65) 74(1.905,-4.745) 75(0.635,-6.65) 76(-0.635,-4.745) 77(-1.905,-6.65) 78(-3.175,-4.745) 79(-4.445,-6.65) 80(-5.715,-4.745) 81(-6.985,-6.65) 82(-8.255,-4.745) 83(-9.525,-6.65) 84(-10.795,-4.745) 85(-12.065,-6.65) 86(-13.335,-4.745) 87(-14.605,-6.65) 88(-15.875,-4.745) 89(-17.145,-6.65) 90(-18.415,-4.745) 91(-19.685,-6.65) 92(-20.955,-4.745) 93(-22.225,-6.65) 94(-23.495,-4.745) 95(-24.765,-6.65) 96(-26.035,-4.745) 97(-27.305,-6.65) 98(-28.575,-4.745) 99(-29.845,-6.65) 100(-31.115,-4.745)
  round 4.55 hole 2.77: 101(39.115,-6.65) 102(-39.115,-6.65)
Top Overlay:
  lines w0.2: -35.165,0.005 ccw(c-35.165,0.7) -34.47,0.7 -34.47,4.815 cw(c-33.775,4.815) -33.775,5.51 33.775,5.51 cw(c33.775,4.815) 34.47,4.815 34.47,0.7 ccw(c35.165,0.7) 35.165,0.005 ; -42.1,-11.76 -42.1,0 42.1,0 42.1,-11.76 -42.1,-11.76
  text "100" at -32.99,-3.64 h1.5
  text "49" at -31.095,-13.735 h1.5
  text "52" at 28.595,-3.64 h1.5
  text "1" at 30.865,-13.735 h1.5